# EAGLE library part LP5562-LED-DRIVER (library LedDriverTest1)
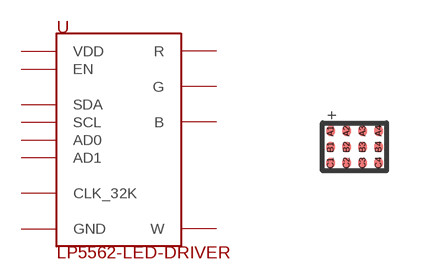
[diagram p1: symbol with the pads of DSBGA12-TI; footprint DSBGA12-TI]

Designator prefix U

## LP5562-LED-DRIVER (VALUE: LP5562)  [DSBGA12-TI]
A1  W  oc
A2  VDD  pwr
A3  CLK_32K  in
A4  B  oc
B1  AD1  in
B2  AD0  in
B3  GND  sup
B4  G  oc
C1  SDA
C2  SCL  in
C3  EN  pwr
C4  R  oc

## Footprint DSBGA12-TI (pad centres in mm)
smd 0.225 x 0.255: A1 -0.6,0.4; A2 -0.2,0.4; A3 0.2,0.4; A4 0.6,0.4; B1 -0.6,0; B2 -0.2,0; B3 0.2,0; B4 0.6,0; C1 -0.6,-0.4; C2 -0.2,-0.4; C3 0.2,-0.4; C4 0.6,-0.4